# Altium integrated library TE_SD.IntLib: 1 symbol
Pins are listed as number, name and electrical type; pins without a type are passive.

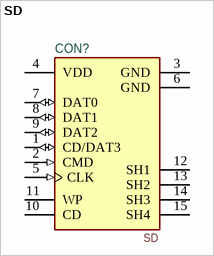
[diagram p0: symbol SD]

## SD
designator CON?
=Description; BUY_LINK: http://www.digikey.com/product-detail/en/2041021-4/A101492TR-ND/2571151; PDF: http://www.te.com/commerce/DocumentDelivery/DDEController?Action=srchrtrv&DocNm=2041021&DocType=Customer+Drawing&DocLang=English; PRICE: 2.18750; ID: SD
footprint SD
pins: 1 CD/DAT3 (io), 2 CMD (in), 3 GND (power), 4 VDD (power), 5 CLK (in), 6 GND (power), 7 DAT0 (io), 8 DAT1 (io), 9 DAT2 (io), 10 CD, 11 WP, 12 SH1, 13 SH2, 14 SH3, 15 SH4